# EAGLE library part MLX91221 (library MLX91221)
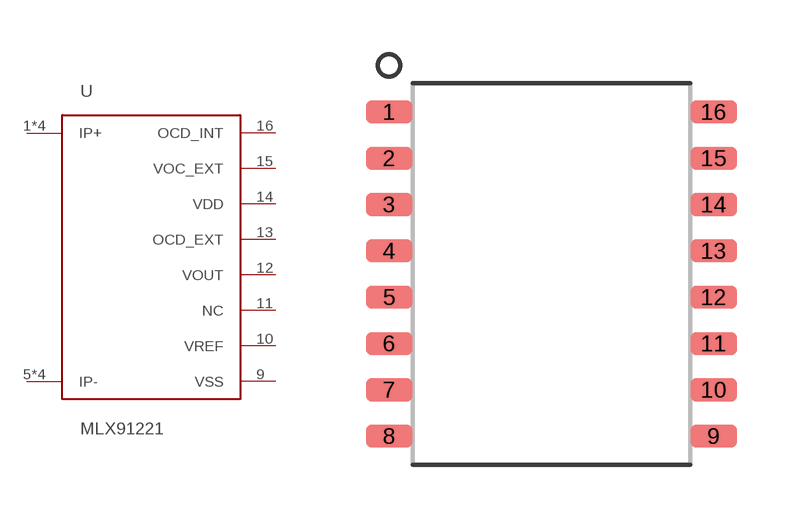
[diagram p0: symbol with the pads of SOIC-16W; footprint SOIC-16W]

Designator prefix -

## MLX91221  [SOIC-16W]
1  IP+  pas
2  IP+  pas
3  IP+  pas
4  IP+  pas
5  IP-  pas
6  IP-  pas
7  IP-  pas
8  IP-  pas
9  VSS  pwr
10  VREF  pas
11  NC  nc
12  VOUT  pas
13  OCD_EXT  pas
14  VDD  pwr
15  VOC_EXT  pas
16  OCD_INT  pas

## Footprint SOIC-16W (pad centres in mm)
smd 1.27 x 0.635: 1 -4.445,4.445; 2 -4.445,3.175; 3 -4.445,1.905; 4 -4.445,0.635; 5 -4.445,-0.635; 6 -4.445,-1.905; 7 -4.445,-3.175; 8 -4.445,-4.445; 9 4.445,-4.445; 10 4.445,-3.175; 11 4.445,-1.905; 12 4.445,-0.635; 13 4.445,0.635; 14 4.445,1.905; 15 4.445,3.175; 16 4.445,4.445